# EAGLE library part TOUCHKEY_1 (library ++Distributed)
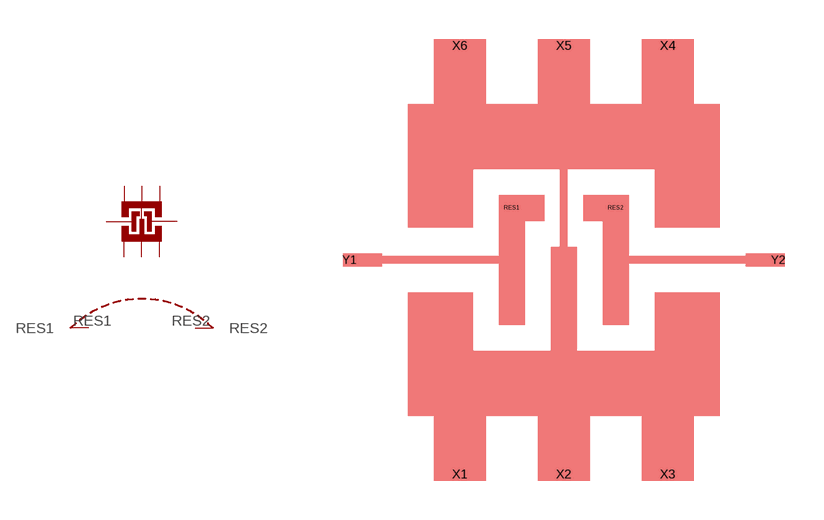
[diagram p0: symbol with the pads of TOUCHKEY_1; footprint TOUCHKEY_1]

Designator prefix -; gates G$1=TOUCHKEY_1 G$2=TOUCHKEYRESISTOR_1

## TOUCHKEY_1 (FUNCTION: [-])  [TOUCHKEY_1]
RES1  G$2:RES1
RES2  G$2:RES2
X1  G$1:X1
X2  G$1:X2
X3  G$1:X3
X4  G$1:X4
X5  G$1:X5
X6  G$1:X6
Y1  G$1:Y1
Y2  G$1:Y2

## Footprint TOUCHKEY_1 (pad centres in mm)
smd 0.5 x 0.5: RES1 -2,2; RES2 2,2; Y1 -8.25,0; Y2 8.25,0
smd 2 x 0.5: X1 -4,-8.25; X2 0,-8.25; X3 4,-8.25; X4 4,8.25; X5 0,8.25; X6 -4,8.25